# EAGLE library part 74XX138 (library yapo)
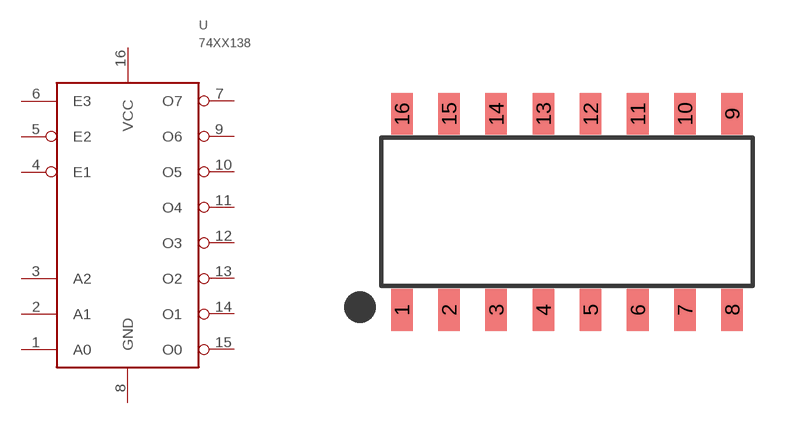
[diagram p16: symbol with the pads of SOIC-16; footprint SOIC-16]

Designator prefix -

## 74XX138  [SOIC-16]
1  A0
2  A1
3  A2
4  E1
5  E2
6  E3
7  O7
8  GND
9  O6
10  O5
11  O4
12  O3
13  O2
14  O1
15  O0
16  VCC

## Footprint SOIC-16 (pad centres in mm)
smd 0.58 x 1.12: 1 -4.445,-2.64; 2 -3.175,-2.64; 3 -1.905,-2.64; 4 -0.635,-2.64; 5 0.635,-2.64; 6 1.905,-2.64; 7 3.175,-2.64; 8 4.445,-2.64; 9 4.445,2.64; 10 3.175,2.64; 11 1.905,2.64; 12 0.635,2.64; 13 -0.635,2.64; 14 -1.905,2.64; 15 -3.175,2.64; 16 -4.445,2.64